# EAGLE library part BQ297X-BATTERY-MANAGER (library CMU-ArtFab)
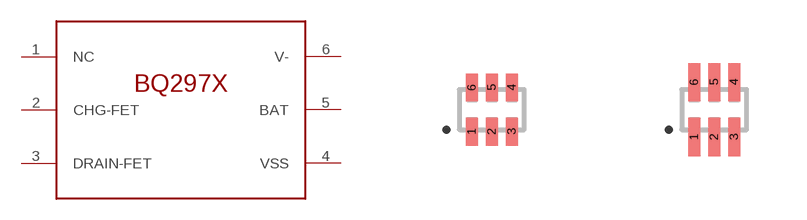
[diagram p31: symbol with the pads of WSON-6; footprints WSON-6, WSON-6-LONG]

Designator prefix IC

## BQ297X-BATTERY-MANAGER  [WSON-6]
1  NC
2  CHG-FET
3  DRAIN-FET
4  VSS
5  BAT
6  V-

## BQ297X-BATTERY-MANAGERLONG  [WSON-6-LONG]
Pads as for WSON-6

## Footprint WSON-6 (pad centres in mm)
WSON-12 Specifications: Pin count: 12 Area:2mmx3mm Datasheet referenced for footprint <http://www.ti.com/lit/ds/symlink/drv8835.pdf> Example device(s): DRV883X
smd 0.3 x 0.7: 1 -0.5,-0.55; 2 0,-0.55; 3 0.5,-0.55; 4 0.5,0.55; 5 0,0.55; 6 -0.5,0.55

## Footprint WSON-6-LONG (pad centres in mm)
WSON-12 Specifications: Pin count: 12 Area:2mmx3mm Datasheet referenced for footprint <http://www.ti.com/lit/ds/symlink/drv8835.pdf> Example device(s): DRV883X
smd 0.3 x 0.954: 1 -0.5,-0.686; 2 0,-0.686; 3 0.5,-0.686; 4 0.5,0.686; 5 0,0.686; 6 -0.5,0.686